# EAGLE library part MAAL-010704 (library sputnik)
MACOM MAAL-010704 Low Noise Amplifier
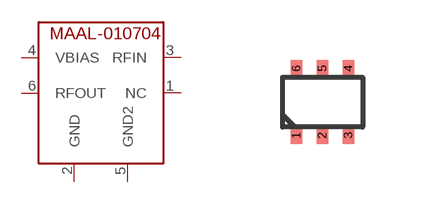
[diagram p0: symbol with the pads of MAAL-010704; footprint MAAL-010704]

Designator prefix -

## MAAL-010704  [MAAL-010704]
1  NC
2  GND
3  RFIN  in
4  VBIAS  pwr
5  GND2
6  RFOUT  out

## Footprint MAAL-010704 (pad centres in mm)
smd 0.3 x 0.425: 1 -0.65,-0.873; 2 0,-0.873; 3 0.65,-0.873; 4 0.65,0.802; 5 0,0.802; 6 -0.65,0.81